# Altium schematic symbol library 2021-07-14_12-22-01.SchLib: 2 symbols
Pins are listed as number, name and electrical type; pins without a type are passive.

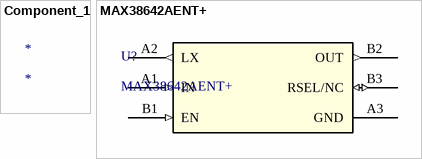
[diagram p0: symbols Component_1 to MAX38642AENT+]

## Component_1
designator *

## MAX38642AENT+
designator U?
No Description Available; Vendor: Maxim Integrated Products; Built_By: EMA_Jessica; SourceLibrary: Maxim_2019-09-23; Manufacturer_Part_Number: MAX38642AENT+; Copyright: Copyright (C) 2018 Accelerated Designs. All rights reserved; RefDes: RefDes; Type: DEV
footprint 21-100128A_N60E1+2_MXM
pins: A1 IN (in), A2 LX (out), A3 GND, B1 EN (in), B2 OUT (out), B3 RSEL/NC (io)